# EAGLE library part LM2586 (library My_TI)
LM2586 SIMPLE SWITCHER® 3A Flyback Regulator. • Wide Input Voltage Range: 4V to 40V. Datasheet <http://www.ti.com/lit/ds/symlink/lm2586.pdf>
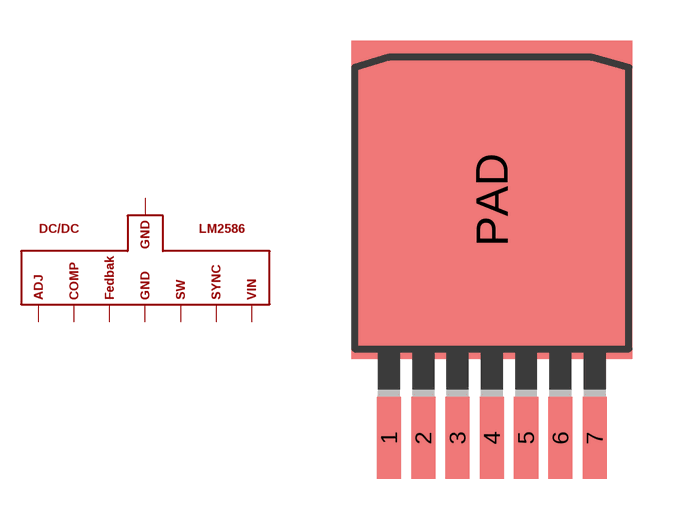
[diagram p61: symbol with the pads of DDPACK-7; footprint DDPACK-7]

Designator prefix DC/DC

## LM2586  [DDPACK-7]
1  P$1
2  P$2
3  P$3
4  P$4
5  P$5
6  P$6
7  P$7
PAD  P$8

## Footprint DDPACK-7 (pad centres in mm)
PLASTIC FLANGE-MOUNT
smd 0.889 x 3.048: 1 -3.81,-8.255; 2 -2.54,-8.255; 3 -1.27,-8.255; 4 0,-8.255; 5 1.27,-8.255; 6 2.54,-8.255; 7 3.81,-8.255
smd 10.41 x 11.8: PAD 0,0.565